# Altium footprint library piox-bee.PCBLIB: 3 footprints
Each footprint in its own frame and in the unit in brackets; x right, y up, seen from the top. Pads: shape width x height; smd on the part's side, far side on the other; paste and mask are expansions set on the pad; w line width, h text height; cw(c..) or ccw(c..) is an arc to the next point about the centre after c.
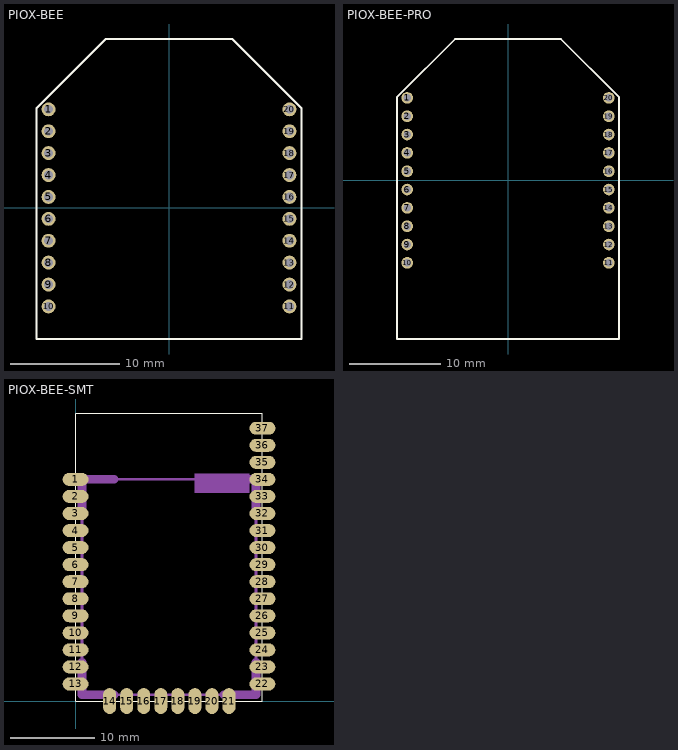
[diagram p0: the footprints below, top view; thin cyan lines are the x and y axes]

## PIOX-BEE [mil]
pads (20):
  round 50 hole 31.5: 1(-433.07,354.33) 2(-433.07,275.59) 3(-433.07,196.85) 4(-433.07,118.11) 5(-433.07,39.37) 6(-433.07,-39.37) 7(-433.07,-118.11) 8(-433.07,-196.85) 9(-433.07,-275.59) 10(-433.07,-354.33) 11(433.07,-354.33) 12(433.07,-275.59) 13(433.07,-196.85) 14(433.07,-118.11) 15(433.07,-39.37) 16(433.07,39.37) 17(433.07,118.11) 18(433.07,196.85) 19(433.07,275.59) 20(433.07,354.33)
Top Overlay:
  lines w8: -476.38,-471.46 -476.38,358.27 -227.36,607.28 227.36,607.28 476.38,358.27 476.38,-471.46 -476.38,-471.46

## PIOX-BEE-PRO [mil]
pads (20):
  round 50 hole 31.5: 1(-433.07,354.33) 2(-433.07,275.59) 3(-433.07,196.85) 4(-433.07,118.11) 5(-433.07,39.37) 6(-433.07,-39.37) 7(-433.07,-118.11) 8(-433.07,-196.85) 9(-433.07,-275.59) 10(-433.07,-354.33) 11(433.07,-354.33) 12(433.07,-275.59) 13(433.07,-196.85) 14(433.07,-118.11) 15(433.07,-39.37) 16(433.07,39.37) 17(433.07,118.11) 18(433.07,196.85) 19(433.07,275.59) 20(433.07,354.33)
Top Overlay:
  lines w8: -476.38,-681.3 -476.38,358.27 -227.36,607.28 227.36,607.28 476.38,358.27 476.38,-681.3 -476.38,-681.3

## PIOX-BEE-SMT [mil]
pads (37):
  rrect100% 120x60 smd: 1(0,1027) 2(0,948) 3(0,869) 4(0,790) 5(0,711) 6(0,632) 7(0,553) 8(0,474) 9(0,395) 10(0,316) 11(0,237) 12(0,158) 13(0,79) 22(866,79) 23(866,158) 24(866,237) 25(866,316) 26(866,395) 27(866,474) 28(866,553) 29(866,632) 30(866,711) 31(866,790) 32(866,869) 33(866,948) 34(866,1027) 35(866,1106) 36(866,1185) 37(866,1264)
  rrect100% 60x120 smd: 14(158,0) 15(237,0) 16(316,0) 17(395,0) 18(474,0) 19(553,0) 20(632,0) 21(711,0)
Top Overlay:
  lines w5: 0,0 0,1330 866,1330 866,0 0,0
Mechanical 16:
  lines w12: 30,30 30,1027 836,1027 836,30 30,30
  lines w40: 30,180 30,30 180,30 ; 30,877 30,1027 180,1027 ; 686,30 836,30 836,180 ; 686,1027 836,1027 836,877
Mechanical 27:
  rectangle: 551,965 806,1055